# EAGLE library part LC4064V-75TN100C (library CPLD)
IC CPLD 64MC 7.5NS 100TQFP Manufacturer's datasheet <https://www.digikey.in/products/en?keywords=220-1037-ND>
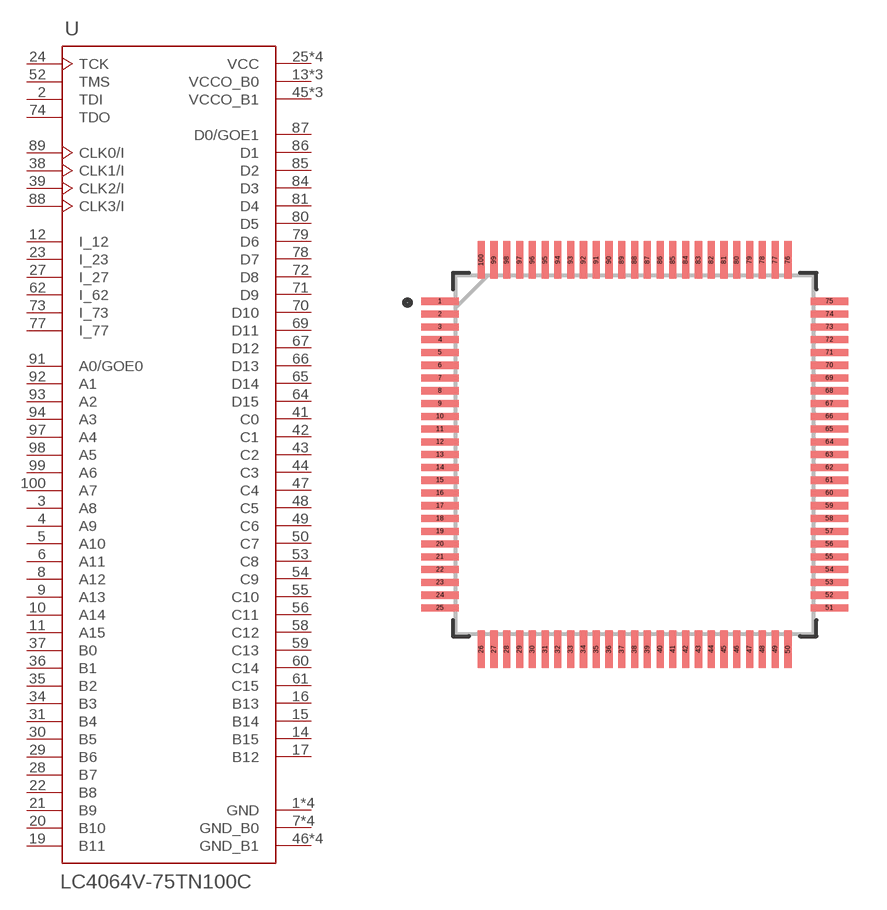
[diagram p1: symbol with the pads of TQFP-100; footprint TQFP-100]

Designator prefix U

## LC4064V-75TN100C (CREATED_BY: PCBLayout.com; DIGIKEY_PN: 220-1037-ND; MANUFACTURER: Lattice Semiconductor Corporation; MPN: LC4064V-75TN100C)  [TQFP-100]
1  GND  pwr
2  TDI  in
3  A8
4  A9
5  A10
6  A11
7  GND_B0  pwr
8  A12
9  A13
10  A14
11  A15
12  I_12  in
13  VCCO_B0  pwr
14  B15
15  B14
16  B13
17  B12
18  GND_B0  pwr
19  B11
20  B10
21  B9
22  B8
23  I_23  in
24  TCK  in
25  VCC  pwr
26  GND  pwr
27  I_27  in
28  B7
29  B6
30  B5
31  B4
32  GND_B0  pwr
33  VCCO_B0  pwr
34  B3
35  B2
36  B1
37  B0
38  CLK1/I  in
39  CLK2/I  in
40  VCC  pwr
41  C0
42  C1
43  C2
44  C3
45  VCCO_B1  pwr
46  GND_B1  pwr
47  C4
48  C5
49  C6
50  C7
51  GND  pwr
52  TMS  in
53  C8
54  C9
55  C10
56  C11
57  GND_B1  pwr
58  C12
59  C13
60  C14
61  C15
62  I_62  in
63  VCCO_B1  pwr
64  D15
65  D14
66  D13
67  D12
68  GND_B1  pwr
69  D11
70  D10
71  D9
72  D8
73  I_73  in
74  TDO  out
75  VCC  pwr
76  GND  pwr
77  I_77  in
78  D7
79  D6
80  D5
81  D4
82  GND_B1  pwr
83  VCCO_B1  pwr
84  D3
85  D2
86  D1
87  D0/GOE1
88  CLK3/I  in
89  CLK0/I  in
90  VCC  pwr
91  A0/GOE0
92  A1
93  A2
94  A3
95  VCCO_B0  pwr
96  GND_B0  pwr
97  A4
98  A5
99  A6
100  A7

## Footprint TQFP-100 (pad centres in mm)
smd 1.473 x 0.279: 1 -7.62,6; 2 -7.62,5.5; 3 -7.62,5; 4 -7.62,4.5; 5 -7.62,4; 6 -7.62,3.5; 7 -7.62,3; 8 -7.62,2.5; 9 -7.62,2; 10 -7.62,1.5; 11 -7.62,1; 12 -7.62,0.5; 13 -7.62,0; 14 -7.62,-0.5; 15 -7.62,-1; 16 -7.62,-1.5; 17 -7.62,-2; 18 -7.62,-2.5; 19 -7.62,-3; 20 -7.62,-3.5; 21 -7.62,-4; 22 -7.62,-4.5; 23 -7.62,-5; 24 -7.62,-5.5; 25 -7.62,-6; 51 7.62,-6; 52 7.62,-5.5; 53 7.62,-5; 54 7.62,-4.5; 55 7.62,-4; 56 7.62,-3.5; 57 7.62,-3; 58 7.62,-2.5; 59 7.62,-2; 60 7.62,-1.5; 61 7.62,-1; 62 7.62,-0.5; 63 7.62,0; 64 7.62,0.5; 65 7.62,1; 66 7.62,1.5; 67 7.62,2; 68 7.62,2.5; 69 7.62,3; 70 7.62,3.5; 71 7.62,4; 72 7.62,4.5; 73 7.62,5; 74 7.62,5.5; 75 7.62,6
smd 0.279 x 1.473: 26 -6,-7.62; 27 -5.5,-7.62; 28 -5,-7.62; 29 -4.5,-7.62; 30 -4,-7.62; 31 -3.5,-7.62; 32 -3,-7.62; 33 -2.5,-7.62; 34 -2,-7.62; 35 -1.5,-7.62; 36 -1,-7.62; 37 -0.5,-7.62; 38 0,-7.62; 39 0.5,-7.62; 40 1,-7.62; 41 1.5,-7.62; 42 2,-7.62; 43 2.5,-7.62; 44 3,-7.62; 45 3.5,-7.62; 46 4,-7.62; 47 4.5,-7.62; 48 5,-7.62; 49 5.5,-7.62; 50 6,-7.62; 76 6,7.62; 77 5.5,7.62; 78 5,7.62; 79 4.5,7.62; 80 4,7.62; 81 3.5,7.62; 82 3,7.62; 83 2.5,7.62; 84 2,7.62; 85 1.5,7.62; 86 1,7.62; 87 0.5,7.62; 88 0,7.62; 89 -0.5,7.62; 90 -1,7.62; 91 -1.5,7.62; 92 -2,7.62; 93 -2.5,7.62; 94 -3,7.62; 95 -3.5,7.62; 96 -4,7.62; 97 -4.5,7.62; 98 -5,7.62; 99 -5.5,7.62; 100 -6,7.62